# Altium integrated library MolexMicroFit3_2_POS.IntLib: 1 symbol
Pins are listed as number, name and electrical type; pins without a type are passive.

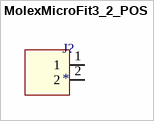
[diagram p0: symbol MolexMicroFit3_2_POS]

## MolexMicroFit3_2_POS
designator J?
CONN HEADER SMD 2POS 3MM / Manufactuer PN: 0436500224
footprint MolexMicroFit3_2_POS
pins: 1, 2